# Altium footprint library Power-3.96mm-1X2-M-R.PcbLib: 1 footprints
Each footprint in its own frame and in the unit in brackets; x right, y up, seen from the top. Pads: shape width x height; smd on the part's side, far side on the other; paste and mask are expansions set on the pad; w line width, h text height; cw(c..) or ccw(c..) is an arc to the next point about the centre after c.
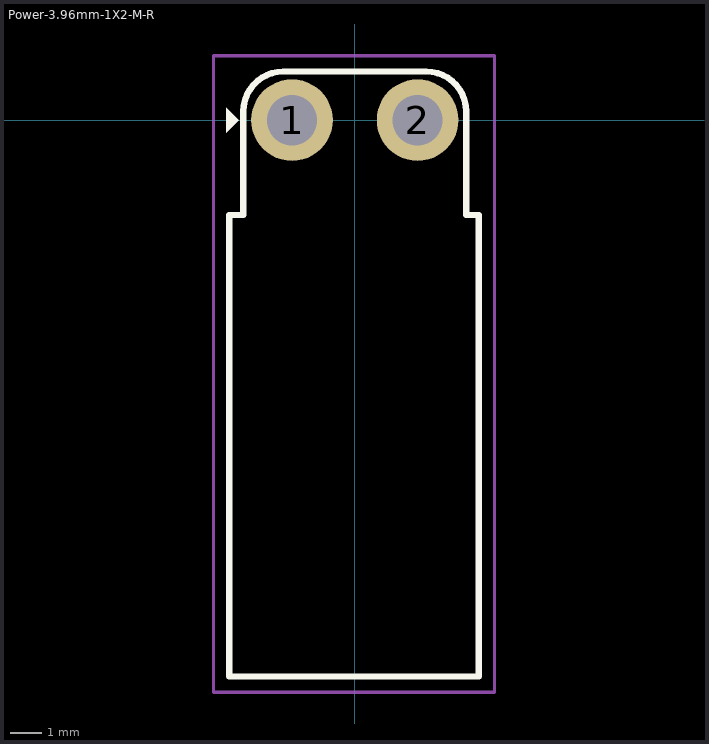
[diagram p0: the footprint, top view; thin cyan lines are the x and y axes]

## Power-3.96mm-1X2-M-R [mm]
pads (2):
  round 2.6 hole 1.6: 1(-2,0) 2(2,0)
Top Overlay:
  region: -4.1,-0.4 -4.1,0.4 -3.7,0
  lines w0.2: -4,-17.725 -4,-3.025 -3.55,-3.025 -3.55,0.28 cw(c-2.28,0.28) -2.28,1.55 2.28,1.55 cw(c2.28,0.28) 3.55,0.28 3.55,-3.025 3.95,-3.025 3.95,-17.725 -4,-17.725
Top Courtyard:
  lines w0.1: -4.5,-18.225 -4.5,2.05 4.45,2.05 4.45,-18.225 -4,-18.225 -4.5,-18.225
3D body "x8672wr-02a-n2sn.stp": height 10.3, standoff -3.6, extent -3.985,-17.71 3.935,0.589